# Altium schematic symbol library TCAN1044VDDFRQ1.SchLib: 1 symbol
Pins are listed as number, name and electrical type; pins without a type are passive.

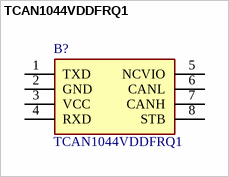
[diagram p0: symbol TCAN1044VDDFRQ1]

## TCAN1044VDDFRQ1
designator B?
CAN Interface IC Automotive fault-protected high-speed CAN transceiver with standby and 1.8-V I/O support 8-SOT-23-THIN -40 to 125; Manufacturer_Name: Texas Instruments; Geometry.Height: 1.1mm; Manufacturer_Part_Number: TCAN1044VDDFRQ1; Mouser Part Number: 595-TCAN1044VDDFRQ1; Mouser Price/Stock: https://www.mouser.co.uk/ProductDetail/Texas-Instruments/TCAN1044VDDFRQ1?qs=vmHwEFxEFR%2Fx%2Fvg%2FkH0KPw%3D%3D; Arrow Part Number: TCAN1044VDDFRQ1; Arrow Price/Stock: https://www.arrow.com/en/products/tcan1044vddfrq1/texas-instruments?region=nac; Datasheet Link: https://www.ti.com/lit/gpn/TCAN1044V-Q1
footprint SOT65P280X110-8N
pins: 1 TXD, 2 GND, 3 VCC, 4 RXD, 5 NCVIO, 6 CANL, 7 CANH, 8 STB